# Altium footprint library PCB - DIODES - CPDA10R3V3U-HF.PCBLIB: 1 footprints
Each footprint in its own frame and in the unit in brackets; x right, y up, seen from the top. Pads: shape width x height; smd on the part's side, far side on the other; paste and mask are expansions set on the pad; w line width, h text height; cw(c..) or ccw(c..) is an arc to the next point about the centre after c.
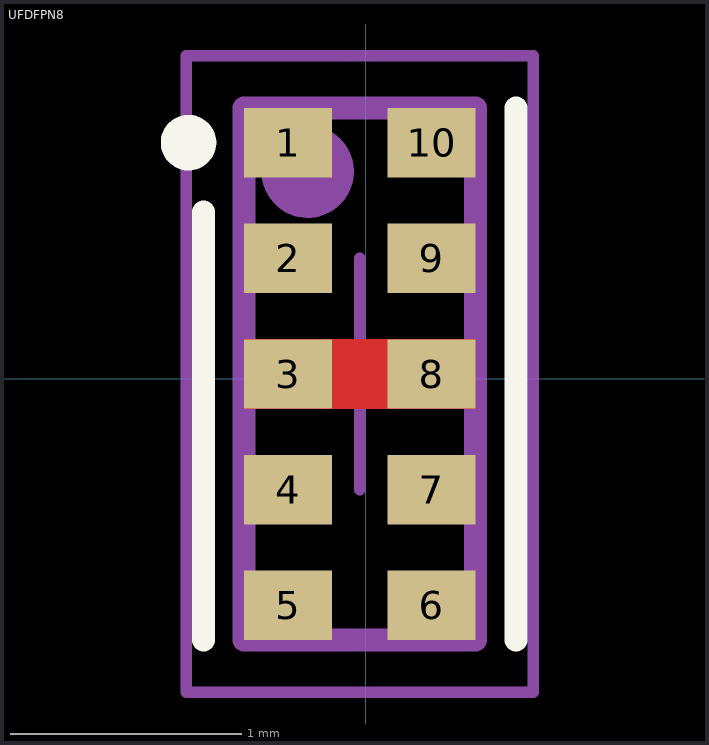
[diagram p0: the footprint, top view; thin cyan lines are the x and y axes]

## UFDFPN8 [mm]
height 0.6
pads (10):
  rect 0.38x0.3 smd: 1(-0.335,1.02) 2(-0.335,0.52) 3(-0.335,0.02) 4(-0.335,-0.48) 5(-0.335,-0.98) 6(0.285,-0.98) 7(0.285,-0.48) 8(0.285,0.02) 9(0.285,0.52) 10(0.285,1.02)
Top Layer:
  region: -0.525,0.17 -0.525,-0.13 0.475,-0.13 0.475,0.17
Top Overlay:
  circle w0.12: c-0.765,1.02 r0.06
  lines w0.1: -0.7,-1.13 -0.7,0.72 ; 0.65,-1.13 0.65,1.17
Top Assembly:
  circle w0.2: c-0.25,0.895 r0.1
  lines w0.1: -0.525,-1.13 -0.525,1.17 0.475,1.17 0.475,-1.13 -0.525,-1.13
Top Courtyard:
  lines w0.05: -0.775,-1.355 0.725,-1.355 0.725,1.395 -0.775,1.395 -0.775,-1.355
Top Designator:
  text ".Designator" at -3.5,1.6 h0.7
Top Component Center:
  lines w0.05: -0.525,0.02 0.475,0.02 ; -0.025,-0.48 -0.025,0.52
3D body: height 0.56, standoff 0.54, extent -0.451,0.676 -0.051,1.076
3D body: height 0.55, standoff 0, extent -0.527,-1.149 0.473,1.151